# Altium integrated library National Semiconductor Interface.IntLib: 1433 symbols (part 4 of 51)
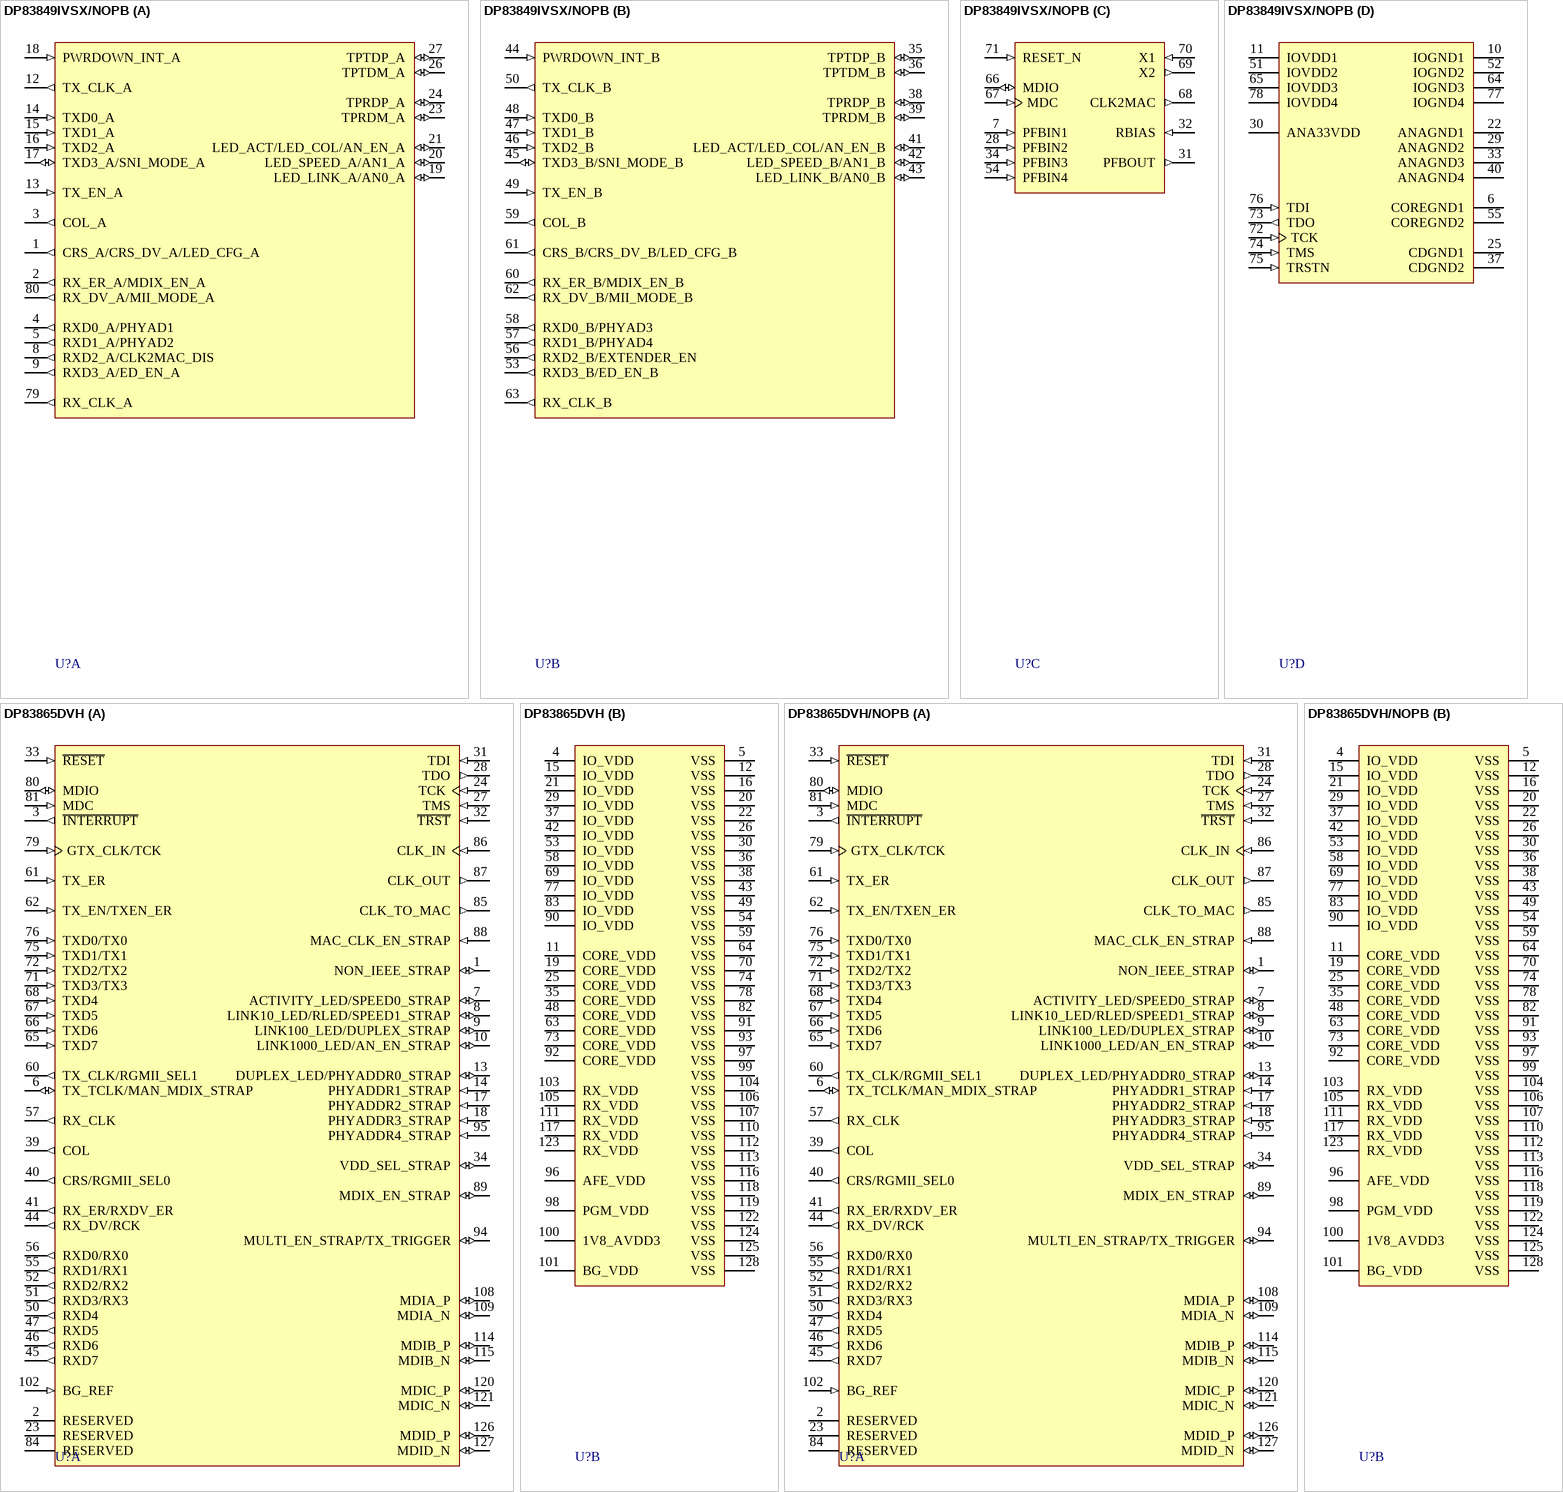
[diagram p127: symbols DP83849IVSX/NOPB to DP83865DVH/NOPB]

## DP83865DVH
designator U?
Gig PHYTER® V 10/100/1000 Ethernet Physical Layer, 128-pin PQFP; PartNumber: DP83865DVH; Manufacturer: National Semiconductor; PackageTopMarking: NSUZXYYTTE#*DP83865DVH; PowerWise: N; CompType: Interface IC; High-Reliability: Y; DatasheetVersion: Oct-2004; PackageVersion: revC, Jun-1998; PackageReference: VLA128A; PackageDescription: PQFP, (S), 14 x 20 x 2.7mm, 128 Lead; RoHS: N; PinCount: 128; ComponentLink1Description: Manufacturer URL; ComponentLink1URL: http://www.national.com/; ComponentLink2Description: DP83865 Datasheet; ComponentLink2URL: http://www.national.com/ds/DP/DP83865.pdf; ComponentLink3Description: DP83865 Web Page; ComponentLink3URL: http://www.national.com/pf/DP/DP83865.html; ComponentLink4Description: VLA128A Package Page; ComponentLink4URL: http://www.national.com/packaging/folders/vla128a.html
footprint VLA128A_N (Shrink QFP, 128-Leads, Body 20x14 mm, Pitch 0.5mm, IPC Medium Density)
footprint VLA128A_L (Shrink QFP, 128-Leads, Body 20x14 mm, Pitch 0.5mm, IPC High Density)
footprint VLA128A_M (Shrink QFP, 128-Leads, Body 20x14 mm, Pitch 0.5mm, IPC Low Density)
part A pins: 1 NON_IEEE_STRAP (io), 2 RESERVED, 3 ~{INTERRUPT} (out), 6 TX_TCLK/MAN_MDIX_STRAP (io), 7 ACTIVITY_LED/SPEED0_STRAP (io), 8 LINK10_LED/RLED/SPEED1_STRAP (io), 9 LINK100_LED/DUPLEX_STRAP (io), 10 LINK1000_LED/AN_EN_STRAP (io), 13 DUPLEX_LED/PHYADDR0_STRAP (io), 14 PHYADDR1_STRAP (in), 17 PHYADDR2_STRAP (in), 18 PHYADDR3_STRAP (in), 23 RESERVED, 24 TCK (in), 27 TMS (in), 28 TDO (out), 31 TDI (in), 32 ~{TRST} (in), 33 ~{RESET} (in), 34 VDD_SEL_STRAP (io), 39 COL (out), 40 CRS/RGMII_SEL0 (out), 41 RX_ER/RXDV_ER (out), 44 RX_DV/RCK (out), 45 RXD7 (out), 46 RXD6 (out), 47 RXD5 (out), 50 RXD4 (out), 51 RXD3/RX3 (out), 52 RXD2/RX2 (out), 55 RXD1/RX1 (out), 56 RXD0/RX0 (out), 57 RX_CLK (out), 60 TX_CLK/RGMII_SEL1 (out), 61 TX_ER (in), 62 TX_EN/TXEN_ER (in), 65 TXD7 (in), 66 TXD6 (in), 67 TXD5 (in), 68 TXD4 (in), 71 TXD3/TX3 (in), 72 TXD2/TX2 (in), 75 TXD1/TX1 (in), 76 TXD0/TX0 (in), 79 GTX_CLK/TCK (in), 80 MDIO (io), 81 MDC (in), 84 RESERVED, 85 CLK_TO_MAC (out), 86 CLK_IN (in), 87 CLK_OUT (out), 88 MAC_CLK_EN_STRAP (in), 89 MDIX_EN_STRAP (io), 94 MULTI_EN_STRAP/TX_TRIGGER (io), 95 PHYADDR4_STRAP (in), 102 BG_REF (in), 108 MDIA_P (io), 109 MDIA_N (io), 114 MDIB_P (io), 115 MDIB_N (io), 120 MDIC_P (io), 121 MDIC_N (io), 126 MDID_P (io), 127 MDID_N (io)
part B pins: 4 IO_VDD (power), 5 VSS (power), 11 CORE_VDD (power), 12 VSS (power), 15 IO_VDD (power), 16 VSS (power), 19 CORE_VDD (power), 20 VSS (power), 21 IO_VDD (power), 22 VSS (power), 25 CORE_VDD (power), 26 VSS (power), 29 IO_VDD (power), 30 VSS (power), 35 CORE_VDD (power), 36 VSS (power), 37 IO_VDD (power), 38 VSS (power), 42 IO_VDD (power), 43 VSS (power), 48 CORE_VDD (power), 49 VSS (power), 53 IO_VDD (power), 54 VSS (power), 58 IO_VDD (power), 59 VSS (power), 63 CORE_VDD (power), 64 VSS (power), 69 IO_VDD (power), 70 VSS (power), 73 CORE_VDD (power), 74 VSS (power), 77 IO_VDD (power), 78 VSS (power), 82 VSS (power), 83 IO_VDD (power), 90 IO_VDD (power), 91 VSS (power), 92 CORE_VDD (power), 93 VSS (power), 96 AFE_VDD (power), 97 VSS (power), 98 PGM_VDD (power), 99 VSS (power), 100 1V8_AVDD3 (power), 101 BG_VDD (power), 103 RX_VDD (power), 104 VSS (power), 105 RX_VDD (power), 106 VSS (power), 107 VSS (power), 110 VSS (power), 111 RX_VDD (power), 112 VSS (power), 113 VSS (power), 116 VSS (power), 117 RX_VDD (power), 118 VSS (power), 119 VSS (power), 122 VSS (power), 123 RX_VDD (power), 124 VSS (power), 125 VSS (power), 128 VSS (power)

## DP83865DVH/NOPB
designator U?
Gig PHYTER® V 10/100/1000 Ethernet Physical Layer, 128-pin PQFP, Pb-Free; PartNumber: DP83865DVH/NOPB; Manufacturer: National Semiconductor; PackageTopMarking: NSUZXYYTTE#*DP83865DVH; PowerWise: N; CompType: Interface IC; High-Reliability: Y; DatasheetVersion: Oct-2004; PackageVersion: revC, Jun-1998; PackageReference: VLA128A; PackageDescription: PQFP, (S), 14 x 20 x 2.7mm, 128 Lead; RoHS: Y; PinCount: 128; ComponentLink1Description: Manufacturer URL; ComponentLink1URL: http://www.national.com/; ComponentLink2Description: DP83865 Datasheet; ComponentLink2URL: http://www.national.com/ds/DP/DP83865.pdf; ComponentLink3Description: DP83865 Web Page; ComponentLink3URL: http://www.national.com/pf/DP/DP83865.html; ComponentLink4Description: VLA128A Package Page; ComponentLink4URL: http://www.national.com/packaging/folders/vla128a.html
footprint VLA128A_N (Shrink QFP, 128-Leads, Body 20x14 mm, Pitch 0.5mm, IPC Medium Density)
footprint VLA128A_L (Shrink QFP, 128-Leads, Body 20x14 mm, Pitch 0.5mm, IPC High Density)
footprint VLA128A_M (Shrink QFP, 128-Leads, Body 20x14 mm, Pitch 0.5mm, IPC Low Density)
part A pins: 1 NON_IEEE_STRAP (io), 2 RESERVED, 3 ~{INTERRUPT} (out), 6 TX_TCLK/MAN_MDIX_STRAP (io), 7 ACTIVITY_LED/SPEED0_STRAP (io), 8 LINK10_LED/RLED/SPEED1_STRAP (io), 9 LINK100_LED/DUPLEX_STRAP (io), 10 LINK1000_LED/AN_EN_STRAP (io), 13 DUPLEX_LED/PHYADDR0_STRAP (io), 14 PHYADDR1_STRAP (in), 17 PHYADDR2_STRAP (in), 18 PHYADDR3_STRAP (in), 23 RESERVED, 24 TCK (in), 27 TMS (in), 28 TDO (out), 31 TDI (in), 32 ~{TRST} (in), 33 ~{RESET} (in), 34 VDD_SEL_STRAP (io), 39 COL (out), 40 CRS/RGMII_SEL0 (out), 41 RX_ER/RXDV_ER (out), 44 RX_DV/RCK (out), 45 RXD7 (out), 46 RXD6 (out), 47 RXD5 (out), 50 RXD4 (out), 51 RXD3/RX3 (out), 52 RXD2/RX2 (out), 55 RXD1/RX1 (out), 56 RXD0/RX0 (out), 57 RX_CLK (out), 60 TX_CLK/RGMII_SEL1 (out), 61 TX_ER (in), 62 TX_EN/TXEN_ER (in), 65 TXD7 (in), 66 TXD6 (in), 67 TXD5 (in), 68 TXD4 (in), 71 TXD3/TX3 (in), 72 TXD2/TX2 (in), 75 TXD1/TX1 (in), 76 TXD0/TX0 (in), 79 GTX_CLK/TCK (in), 80 MDIO (io), 81 MDC (in), 84 RESERVED, 85 CLK_TO_MAC (out), 86 CLK_IN (in), 87 CLK_OUT (out), 88 MAC_CLK_EN_STRAP (in), 89 MDIX_EN_STRAP (io), 94 MULTI_EN_STRAP/TX_TRIGGER (io), 95 PHYADDR4_STRAP (in), 102 BG_REF (in), 108 MDIA_P (io), 109 MDIA_N (io), 114 MDIB_P (io), 115 MDIB_N (io), 120 MDIC_P (io), 121 MDIC_N (io), 126 MDID_P (io), 127 MDID_N (io)
part B pins: 4 IO_VDD (power), 5 VSS (power), 11 CORE_VDD (power), 12 VSS (power), 15 IO_VDD (power), 16 VSS (power), 19 CORE_VDD (power), 20 VSS (power), 21 IO_VDD (power), 22 VSS (power), 25 CORE_VDD (power), 26 VSS (power), 29 IO_VDD (power), 30 VSS (power), 35 CORE_VDD (power), 36 VSS (power), 37 IO_VDD (power), 38 VSS (power), 42 IO_VDD (power), 43 VSS (power), 48 CORE_VDD (power), 49 VSS (power), 53 IO_VDD (power), 54 VSS (power), 58 IO_VDD (power), 59 VSS (power), 63 CORE_VDD (power), 64 VSS (power), 69 IO_VDD (power), 70 VSS (power), 73 CORE_VDD (power), 74 VSS (power), 77 IO_VDD (power), 78 VSS (power), 82 VSS (power), 83 IO_VDD (power), 90 IO_VDD (power), 91 VSS (power), 92 CORE_VDD (power), 93 VSS (power), 96 AFE_VDD (power), 97 VSS (power), 98 PGM_VDD (power), 99 VSS (power), 100 1V8_AVDD3 (power), 101 BG_VDD (power), 103 RX_VDD (power), 104 VSS (power), 105 RX_VDD (power), 106 VSS (power), 107 VSS (power), 110 VSS (power), 111 RX_VDD (power), 112 VSS (power), 113 VSS (power), 116 VSS (power), 117 RX_VDD (power), 118 VSS (power), 119 VSS (power), 122 VSS (power), 123 RX_VDD (power), 124 VSS (power), 125 VSS (power), 128 VSS (power)

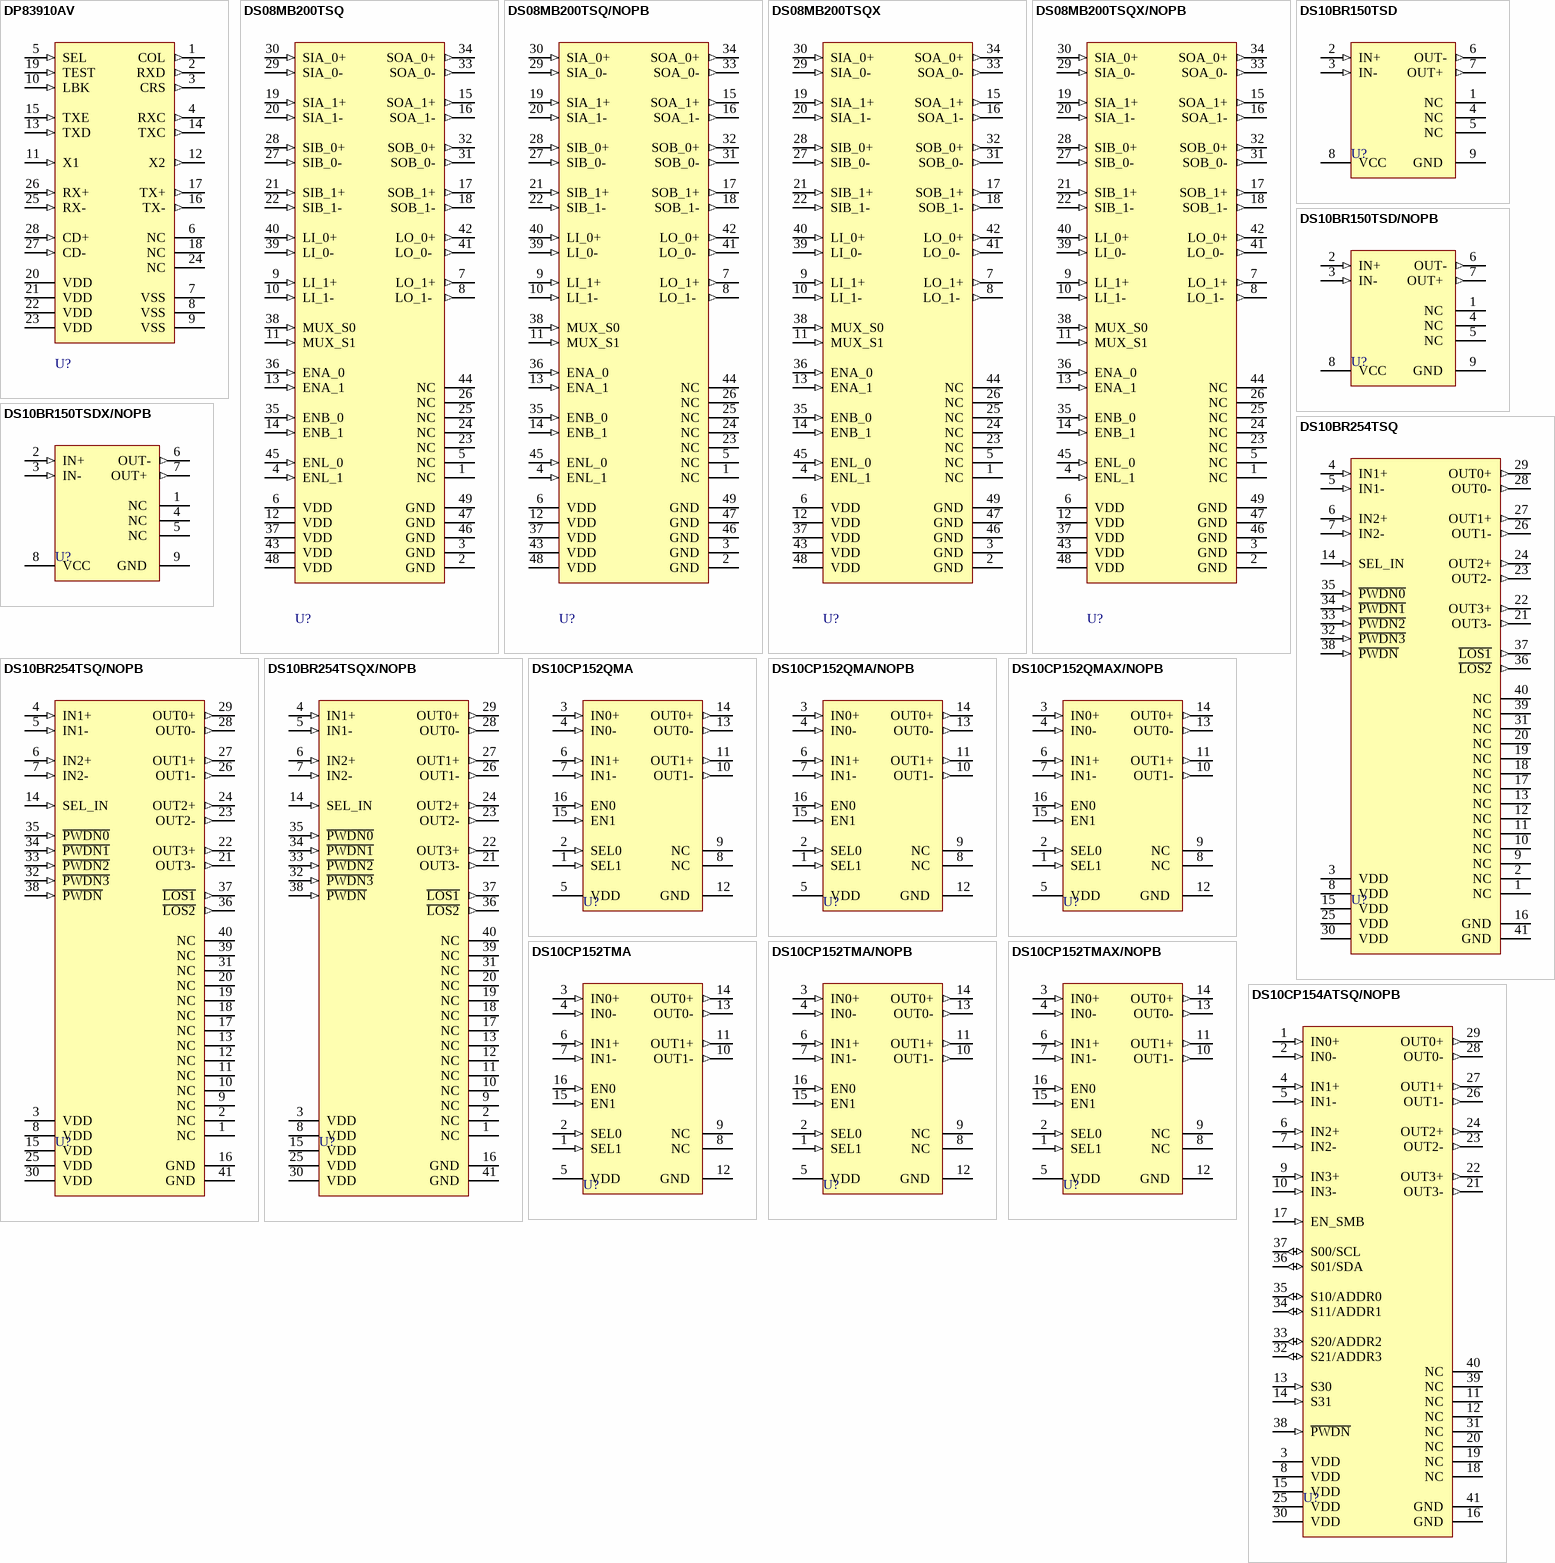
[diagram p14: symbols DP83910AV to DS10CP154ATSQ/NOPB]

## DP83910AV
designator U?
CMOS SNI Serial Network Interface, 28-pin PLCC; PartNumber: DP83910AV; Manufacturer: National Semiconductor; PackageTopMarking: NSUZXYYTTE#*DP83910AV; PowerWise: N; CompType: Interface IC; High-Reliability: Y; DatasheetVersion: May-1995; PackageVersion: revK, Dec-1993; PackageReference: V28A; PackageDescription: Plastic Chip Carrier, Sq., .050in Pitch, 28 Lead; RoHS: N; PinCount: 28; Code_IPC: PLCC-28; ComponentLink1Description: Manufacturer URL; ComponentLink1URL: http://www.national.com/; ComponentLink2Description: DP83910A Datasheet; ComponentLink2URL: http://www.national.com/ds/DP/DP83910A.pdf; ComponentLink3Description: DP83910A Web Page; ComponentLink3URL: http://www.national.com/pf/DP/DP83910A.html; ComponentLink4Description: V28A Package Page; ComponentLink4URL: http://www.national.com/packaging/folders/v28a.html
footprint V28A_N (Leaded Chip Carrier, 28-Leads, Body 11.5x11.5mm, Pitch 1.27mm, IPC Medium Density)
footprint V28A_L (Leaded Chip Carrier, 28-Leads, Body 11.5x11.5mm, Pitch 1.27mm, IPC High Density)
footprint V28A_M (Leaded Chip Carrier, 28-Leads, Body 11.5x11.5mm, Pitch 1.27mm, IPC Low Density)
pins: 1 COL (out), 2 RXD (out), 3 CRS (out), 4 RXC (out), 5 SEL (in), 6 NC, 7 VSS (power), 8 VSS (power), 9 VSS (power), 10 LBK (in), 11 X1 (in), 12 X2 (out), 13 TXD (in), 14 TXC (out), 15 TXE (in), 16 TX- (out), 17 TX+ (out), 18 NC, 19 TEST (in), 20 VDD (power), 21 VDD (power), 22 VDD (power), 23 VDD (power), 24 NC, 25 RX- (in), 26 RX+ (in), 27 CD- (in), 28 CD+ (in)

## DS08MB200TSQ
designator U?
Dual 800 Mbps 2:1/1:2 LVDS Mux/Buffer, 48-pin LLP; PartNumber: DS08MB200TSQ; Manufacturer: National Semiconductor; PackageTopMarking: NS*UZXYTTE#*08MB200; PowerWise: N; CompType: Interface IC; High-Reliability: Y; DatasheetVersion: Nov-2007; PackageVersion: revB, May-2009; PackageReference: SQA48A; PackageDescription: LLP, Plastic, Quad, 7 x 7 x 0.8mm Body, 48 Lead, 0.5mm Pitch, No Pullback; RoHS: N; PinCount: 48; Code_JEDEC: MO-220-WKKD-2; ComponentLink1Description: Manufacturer URL; ComponentLink1URL: http://www.national.com/; ComponentLink2Description: DS08MB200 Datasheet; ComponentLink2URL: http://www.national.com/ds/DS/DS08MB200.pdf; ComponentLink3Description: DS08MB200 Web Page; ComponentLink3URL: http://www.national.com/pf/DS/DS08MB200.html; ComponentLink4Description: SQA48A Package Page; ComponentLink4URL: http://www.national.com/packaging/folders/sqa48a.html
footprint SQA48A (QFN, 48-Leads, Body 7x7mm, Pitch 0.5mm, Thermal Pad 5.2x5.2mm, NSC Recommended)
pins: 1 NC, 2 GND (power), 3 GND (power), 4 ENL_1  (in), 5 NC, 6 VDD (power), 7 LO_1+ (out), 8 LO_1-  (out), 9 LI_1+ (in), 10 LI_1-  (in), 11 MUX_S1  (in), 12 VDD (power), 13 ENA_1  (in), 14 ENB_1  (in), 15 SOA_1+ (out), 16 SOA_1- (out), 17 SOB_1+ (out), 18 SOB_1- (out), 19 SIA_1+ (in), 20 SIA_1- (in), 21 SIB_1+ (in), 22 SIB_1- (in), 23 NC, 24 NC, 25 NC, 26 NC, 27 SIB_0- (in), 28 SIB_0+ (in), 29 SIA_0- (in), 30 SIA_0+ (in), 31 SOB_0- (out), 32 SOB_0+ (out), 33 SOA_0- (out), 34 SOA_0+ (out), 35 ENB_0  (in), 36 ENA_0  (in), 37 VDD (power), 38 MUX_S0  (in), 39 LI_0-  (in), 40 LI_0+ (in), 41 LO_0-  (out), 42 LO_0+ (out), 43 VDD (power), 44 NC, 45 ENL_0  (in), 46 GND (power), 47 GND (power), 48 VDD (power), 49 GND (power)

## DS08MB200TSQ/NOPB
designator U?
Dual 800 Mbps 2:1/1:2 LVDS Mux/Buffer, 48-pin LLP, Pb-Free; PartNumber: DS08MB200TSQ/NOPB; Manufacturer: National Semiconductor; PackageTopMarking: NS*UZXYTTE#*08MB200; PowerWise: N; CompType: Interface IC; High-Reliability: Y; DatasheetVersion: Nov-2007; PackageVersion: revB, May-2009; PackageReference: SQA48A; PackageDescription: LLP, Plastic, Quad, 7 x 7 x 0.8mm Body, 48 Lead, 0.5mm Pitch, No Pullback; RoHS: Y; PinCount: 48; Code_JEDEC: MO-220-WKKD-2; ComponentLink1Description: Manufacturer URL; ComponentLink1URL: http://www.national.com/; ComponentLink2Description: DS08MB200 Datasheet; ComponentLink2URL: http://www.national.com/ds/DS/DS08MB200.pdf; ComponentLink3Description: DS08MB200 Web Page; ComponentLink3URL: http://www.national.com/pf/DS/DS08MB200.html; ComponentLink4Description: SQA48A Package Page; ComponentLink4URL: http://www.national.com/packaging/folders/sqa48a.html
footprint SQA48A (QFN, 48-Leads, Body 7x7mm, Pitch 0.5mm, Thermal Pad 5.2x5.2mm, NSC Recommended)
pins: 1 NC, 2 GND (power), 3 GND (power), 4 ENL_1  (in), 5 NC, 6 VDD (power), 7 LO_1+ (out), 8 LO_1-  (out), 9 LI_1+ (in), 10 LI_1-  (in), 11 MUX_S1  (in), 12 VDD (power), 13 ENA_1  (in), 14 ENB_1  (in), 15 SOA_1+ (out), 16 SOA_1- (out), 17 SOB_1+ (out), 18 SOB_1- (out), 19 SIA_1+ (in), 20 SIA_1- (in), 21 SIB_1+ (in), 22 SIB_1- (in), 23 NC, 24 NC, 25 NC, 26 NC, 27 SIB_0- (in), 28 SIB_0+ (in), 29 SIA_0- (in), 30 SIA_0+ (in), 31 SOB_0- (out), 32 SOB_0+ (out), 33 SOA_0- (out), 34 SOA_0+ (out), 35 ENB_0  (in), 36 ENA_0  (in), 37 VDD (power), 38 MUX_S0  (in), 39 LI_0-  (in), 40 LI_0+ (in), 41 LO_0-  (out), 42 LO_0+ (out), 43 VDD (power), 44 NC, 45 ENL_0  (in), 46 GND (power), 47 GND (power), 48 VDD (power), 49 GND (power)

## DS08MB200TSQX
designator U?
Dual 800 Mbps 2:1/1:2 LVDS Mux/Buffer, 48-pin LLP; PartNumber: DS08MB200TSQX; Manufacturer: National Semiconductor; PackageTopMarking: NS*UZXYTTE#*08MB200; PowerWise: N; CompType: Interface IC; High-Reliability: Y; DatasheetVersion: Nov-2007; PackageVersion: revB, May-2009; PackageReference: SQA48A; PackageDescription: LLP, Plastic, Quad, 7 x 7 x 0.8mm Body, 48 Lead, 0.5mm Pitch, No Pullback; RoHS: N; PinCount: 48; Code_JEDEC: MO-220-WKKD-2; ComponentLink1Description: Manufacturer URL; ComponentLink1URL: http://www.national.com/; ComponentLink2Description: DS08MB200 Datasheet; ComponentLink2URL: http://www.national.com/ds/DS/DS08MB200.pdf; ComponentLink3Description: DS08MB200 Web Page; ComponentLink3URL: http://www.national.com/pf/DS/DS08MB200.html; ComponentLink4Description: SQA48A Package Page; ComponentLink4URL: http://www.national.com/packaging/folders/sqa48a.html
footprint SQA48A (QFN, 48-Leads, Body 7x7mm, Pitch 0.5mm, Thermal Pad 5.2x5.2mm, NSC Recommended)
pins: 1 NC, 2 GND (power), 3 GND (power), 4 ENL_1  (in), 5 NC, 6 VDD (power), 7 LO_1+ (out), 8 LO_1-  (out), 9 LI_1+ (in), 10 LI_1-  (in), 11 MUX_S1  (in), 12 VDD (power), 13 ENA_1  (in), 14 ENB_1  (in), 15 SOA_1+ (out), 16 SOA_1- (out), 17 SOB_1+ (out), 18 SOB_1- (out), 19 SIA_1+ (in), 20 SIA_1- (in), 21 SIB_1+ (in), 22 SIB_1- (in), 23 NC, 24 NC, 25 NC, 26 NC, 27 SIB_0- (in), 28 SIB_0+ (in), 29 SIA_0- (in), 30 SIA_0+ (in), 31 SOB_0- (out), 32 SOB_0+ (out), 33 SOA_0- (out), 34 SOA_0+ (out), 35 ENB_0  (in), 36 ENA_0  (in), 37 VDD (power), 38 MUX_S0  (in), 39 LI_0-  (in), 40 LI_0+ (in), 41 LO_0-  (out), 42 LO_0+ (out), 43 VDD (power), 44 NC, 45 ENL_0  (in), 46 GND (power), 47 GND (power), 48 VDD (power), 49 GND (power)

## DS08MB200TSQX/NOPB
designator U?
Dual 800 Mbps 2:1/1:2 LVDS Mux/Buffer, 48-pin LLP, Pb-Free; PartNumber: DS08MB200TSQX/NOPB; Manufacturer: National Semiconductor; PackageTopMarking: NS*UZXYTTE#*08MB200; PowerWise: N; CompType: Interface IC; High-Reliability: Y; DatasheetVersion: Nov-2007; PackageVersion: revB, May-2009; PackageReference: SQA48A; PackageDescription: LLP, Plastic, Quad, 7 x 7 x 0.8mm Body, 48 Lead, 0.5mm Pitch, No Pullback; RoHS: Y; PinCount: 48; Code_JEDEC: MO-220-WKKD-2; ComponentLink1Description: Manufacturer URL; ComponentLink1URL: http://www.national.com/; ComponentLink2Description: DS08MB200 Datasheet; ComponentLink2URL: http://www.national.com/ds/DS/DS08MB200.pdf; ComponentLink3Description: DS08MB200 Web Page; ComponentLink3URL: http://www.national.com/pf/DS/DS08MB200.html; ComponentLink4Description: SQA48A Package Page; ComponentLink4URL: http://www.national.com/packaging/folders/sqa48a.html
footprint SQA48A (QFN, 48-Leads, Body 7x7mm, Pitch 0.5mm, Thermal Pad 5.2x5.2mm, NSC Recommended)
pins: 1 NC, 2 GND (power), 3 GND (power), 4 ENL_1  (in), 5 NC, 6 VDD (power), 7 LO_1+ (out), 8 LO_1-  (out), 9 LI_1+ (in), 10 LI_1-  (in), 11 MUX_S1  (in), 12 VDD (power), 13 ENA_1  (in), 14 ENB_1  (in), 15 SOA_1+ (out), 16 SOA_1- (out), 17 SOB_1+ (out), 18 SOB_1- (out), 19 SIA_1+ (in), 20 SIA_1- (in), 21 SIB_1+ (in), 22 SIB_1- (in), 23 NC, 24 NC, 25 NC, 26 NC, 27 SIB_0- (in), 28 SIB_0+ (in), 29 SIA_0- (in), 30 SIA_0+ (in), 31 SOB_0- (out), 32 SOB_0+ (out), 33 SOA_0- (out), 34 SOA_0+ (out), 35 ENB_0  (in), 36 ENA_0  (in), 37 VDD (power), 38 MUX_S0  (in), 39 LI_0-  (in), 40 LI_0+ (in), 41 LO_0-  (out), 42 LO_0+ (out), 43 VDD (power), 44 NC, 45 ENL_0  (in), 46 GND (power), 47 GND (power), 48 VDD (power), 49 GND (power)

## DS10BR150TSD
designator U?
1.0 Gbps LVDS Buffer/Repeater, 8-pin LLP; PartNumber: DS10BR150TSD; Manufacturer: National Semiconductor; PackageTopMarking: ZXYTT*1R150; PowerWise: N; CompType: Interface IC; High-Reliability: Y; DatasheetVersion: Nov-2007; PackageVersion: revA, Aug-2003; PackageReference: SDA08A; PackageDescription: LLP, Plastic, Dual, 3 x 3 x 0.8mm Body, 8 Lead, 0.5mm Pitch, No Pullback; RoHS: Y; PinCount: 8; ComponentLink1Description: Manufacturer URL; ComponentLink1URL: http://www.national.com/; ComponentLink2Description: DS10BR150 Datasheet; ComponentLink2URL: http://www.national.com/ds/DS/DS10BR150.pdf; ComponentLink3Description: DS10BR150 Web Page; ComponentLink3URL: http://www.national.com/pf/DS/DS10BR150.html; ComponentLink4Description: SDA08A Package Page; ComponentLink4URL: http://www.national.com/packaging/folders/sda08a.html
footprint SDA08A (SON, 8-Leads, Body 3x3mm, Pitch 0.5mm, NSC Recommended)
pins: 1 NC , 2 IN+  (in), 3 IN- (in), 4 NC , 5 NC , 6 OUT- (out), 7 OUT+  (out), 8 VCC  (power), 9 GND  (power)

## DS10BR150TSD/NOPB
designator U?
1.0 Gbps LVDS Buffer/Repeater, 8-pin LLP, Pb-Free; PartNumber: DS10BR150TSD/NOPB; Manufacturer: National Semiconductor; PackageTopMarking: ZXYTT*1R150; PowerWise: N; CompType: Interface IC; High-Reliability: Y; DatasheetVersion: Nov-2007; PackageVersion: revA, Aug-2003; PackageReference: SDA08A; PackageDescription: LLP, Plastic, Dual, 3 x 3 x 0.8mm Body, 8 Lead, 0.5mm Pitch, No Pullback; RoHS: Y; PinCount: 8; ComponentLink1Description: Manufacturer URL; ComponentLink1URL: http://www.national.com/; ComponentLink2Description: DS10BR150 Datasheet; ComponentLink2URL: http://www.national.com/ds/DS/DS10BR150.pdf; ComponentLink3Description: DS10BR150 Web Page; ComponentLink3URL: http://www.national.com/pf/DS/DS10BR150.html; ComponentLink4Description: SDA08A Package Page; ComponentLink4URL: http://www.national.com/packaging/folders/sda08a.html
footprint SDA08A (SON, 8-Leads, Body 3x3mm, Pitch 0.5mm, NSC Recommended)
pins: 1 NC , 2 IN+  (in), 3 IN- (in), 4 NC , 5 NC , 6 OUT- (out), 7 OUT+  (out), 8 VCC  (power), 9 GND  (power)

## DS10BR150TSDX/NOPB
designator U?
1.0 Gbps LVDS Buffer/Repeater, 8-pin LLP, Pb-Free; PartNumber: DS10BR150TSDX/NOPB; Manufacturer: National Semiconductor; PackageTopMarking: ZXYTT*1R150; PowerWise: N; CompType: Interface IC; High-Reliability: Y; DatasheetVersion: Nov-2007; PackageVersion: revA, Aug-2003; PackageReference: SDA08A; PackageDescription: LLP, Plastic, Dual, 3 x 3 x 0.8mm Body, 8 Lead, 0.5mm Pitch, No Pullback; RoHS: Y; PinCount: 8; ComponentLink1Description: Manufacturer URL; ComponentLink1URL: http://www.national.com/; ComponentLink2Description: DS10BR150 Datasheet; ComponentLink2URL: http://www.national.com/ds/DS/DS10BR150.pdf; ComponentLink3Description: DS10BR150 Web Page; ComponentLink3URL: http://www.national.com/pf/DS/DS10BR150.html; ComponentLink4Description: SDA08A Package Page; ComponentLink4URL: http://www.national.com/packaging/folders/sda08a.html
footprint SDA08A (SON, 8-Leads, Body 3x3mm, Pitch 0.5mm, NSC Recommended)
pins: 1 NC , 2 IN+  (in), 3 IN- (in), 4 NC , 5 NC , 6 OUT- (out), 7 OUT+  (out), 8 VCC  (power), 9 GND  (power)

## DS10BR254TSQ
designator U?
1.5 Gbps 1:4 LVDS Repeater, 40-pin LLP; PartNumber: DS10BR254TSQ; Manufacturer: National Semiconductor; PackageTopMarking: NS*UZXYTT*1BR254SQ; PowerWise: N; CompType: Interface IC; High-Reliability: Y; DatasheetVersion: Apr-2008; PackageVersion: revB, Mar-2004; PackageReference: SQA40A; PackageDescription: LLP, Plastic, Quad, 6 x 6 x 0.8mm Body, 40 Lead, 0.5mm Pitch, No Pullback; RoHS: Y; PinCount: 40; ComponentLink1Description: Manufacturer URL; ComponentLink1URL: http://www.national.com/; ComponentLink2Description: DS10BR254 Datasheet; ComponentLink2URL: http://www.national.com/ds/DS/DS10BR254.pdf; ComponentLink3Description: DS10BR254 Web Page; ComponentLink3URL: http://www.national.com/pf/DS/DS10BR254.html; ComponentLink4Description: SQA40A Package Page; ComponentLink4URL: http://www.national.com/packaging/folders/sqa40a.html
footprint SQA40A (QFN, 40-Leads, Body 6x6mm, Pitch 0.5mm, Thermal Pad 4.7x4.7mm, NSC Recommended)
pins: 1 NC, 2 NC, 3 VDD (power), 4 IN1+ (in), 5 IN1- (in), 6 IN2+ (in), 7 IN2- (in), 8 VDD (power), 9 NC, 10 NC, 11 NC, 12 NC, 13 NC, 14 SEL_IN (in), 15 VDD (power), 16 GND (power), 17 NC, 18 NC, 19 NC, 20 NC, 21 OUT3- (out), 22 OUT3+ (out), 23 OUT2- (out), 24 OUT2+ (out), 25 VDD (power), 26 OUT1- (out), 27 OUT1+ (out), 28 OUT0- (out), 29 OUT0+ (out), 30 VDD (power), 31 NC, 32 ~{PWDN3} (in), 33 ~{PWDN2} (in), 34 ~{PWDN1} (in), 35 ~{PWDN0} (in), 36 ~{LOS2} (out), 37 ~{LOS1} (out), 38 ~{PWDN} (in), 39 NC, 40 NC, 41 GND (power)

## DS10BR254TSQ/NOPB
designator U?
1.5 Gbps 1:4 LVDS Repeater, 40-pin LLP, Pb-Free; PartNumber: DS10BR254TSQ/NOPB; Manufacturer: National Semiconductor; PackageTopMarking: NS*UZXYTTE#*1BR254SQ; PowerWise: N; CompType: Interface IC; High-Reliability: Y; DatasheetVersion: Apr-2008; PackageVersion: revB, Mar-2004; PackageReference: SQA40A; PackageDescription: LLP, Plastic, Quad, 6 x 6 x 0.8mm Body, 40 Lead, 0.5mm Pitch, No Pullback; RoHS: Y; PinCount: 40; ComponentLink1Description: Manufacturer URL; ComponentLink1URL: http://www.national.com/; ComponentLink2Description: DS10BR254 Datasheet; ComponentLink2URL: http://www.national.com/ds/DS/DS10BR254.pdf; ComponentLink3Description: DS10BR254 Web Page; ComponentLink3URL: http://www.national.com/pf/DS/DS10BR254.html; ComponentLink4Description: SQA40A Package Page; ComponentLink4URL: http://www.national.com/packaging/folders/sqa40a.html
footprint SQA40A (QFN, 40-Leads, Body 6x6mm, Pitch 0.5mm, Thermal Pad 4.7x4.7mm, NSC Recommended)
pins: 1 NC, 2 NC, 3 VDD (power), 4 IN1+ (in), 5 IN1- (in), 6 IN2+ (in), 7 IN2- (in), 8 VDD (power), 9 NC, 10 NC, 11 NC, 12 NC, 13 NC, 14 SEL_IN (in), 15 VDD (power), 16 GND (power), 17 NC, 18 NC, 19 NC, 20 NC, 21 OUT3- (out), 22 OUT3+ (out), 23 OUT2- (out), 24 OUT2+ (out), 25 VDD (power), 26 OUT1- (out), 27 OUT1+ (out), 28 OUT0- (out), 29 OUT0+ (out), 30 VDD (power), 31 NC, 32 ~{PWDN3} (in), 33 ~{PWDN2} (in), 34 ~{PWDN1} (in), 35 ~{PWDN0} (in), 36 ~{LOS2} (out), 37 ~{LOS1} (out), 38 ~{PWDN} (in), 39 NC, 40 NC, 41 GND (power)

## DS10BR254TSQX/NOPB
designator U?
1.5 Gbps 1:4 LVDS Repeater, 40-pin LLP, Pb-Free; PartNumber: DS10BR254TSQX/NOPB; Manufacturer: National Semiconductor; PackageTopMarking: NS*UZXYTTE#*1BR254SQ; PowerWise: N; CompType: Interface IC; High-Reliability: Y; DatasheetVersion: Apr-2008; PackageVersion: revB, Mar-2004; PackageReference: SQA40A; PackageDescription: LLP, Plastic, Quad, 6 x 6 x 0.8mm Body, 40 Lead, 0.5mm Pitch, No Pullback; RoHS: Y; PinCount: 40; ComponentLink1Description: Manufacturer URL; ComponentLink1URL: http://www.national.com/; ComponentLink2Description: DS10BR254 Datasheet; ComponentLink2URL: http://www.national.com/ds/DS/DS10BR254.pdf; ComponentLink3Description: DS10BR254 Web Page; ComponentLink3URL: http://www.national.com/pf/DS/DS10BR254.html; ComponentLink4Description: SQA40A Package Page; ComponentLink4URL: http://www.national.com/packaging/folders/sqa40a.html
footprint SQA40A (QFN, 40-Leads, Body 6x6mm, Pitch 0.5mm, Thermal Pad 4.7x4.7mm, NSC Recommended)
pins: 1 NC, 2 NC, 3 VDD (power), 4 IN1+ (in), 5 IN1- (in), 6 IN2+ (in), 7 IN2- (in), 8 VDD (power), 9 NC, 10 NC, 11 NC, 12 NC, 13 NC, 14 SEL_IN (in), 15 VDD (power), 16 GND (power), 17 NC, 18 NC, 19 NC, 20 NC, 21 OUT3- (out), 22 OUT3+ (out), 23 OUT2- (out), 24 OUT2+ (out), 25 VDD (power), 26 OUT1- (out), 27 OUT1+ (out), 28 OUT0- (out), 29 OUT0+ (out), 30 VDD (power), 31 NC, 32 ~{PWDN3} (in), 33 ~{PWDN2} (in), 34 ~{PWDN1} (in), 35 ~{PWDN0} (in), 36 ~{LOS2} (out), 37 ~{LOS1} (out), 38 ~{PWDN} (in), 39 NC, 40 NC, 41 GND (power)

## DS10CP152QMA
designator U?
Automotive 1.5 Gbps 2X2 LVDS Crosspoint Switch, 16-pin Narrow SOIC; PartNumber: DS10CP152QMA; Manufacturer: National Semiconductor; PackageTopMarking: NSUZXYTT*DS10CP152*QMA; PowerWise: N; CompType: Interface IC; High-Reliability: Y; DatasheetVersion: Jun-2008; PackageVersion: revJ, Aug-1995; PackageReference: M16A; PackageDescription: Molded Package, SO, .150in Wide, 16 Lead; RoHS: Y; PinCount: 16; Code_JEDEC: MS-012-AC; Code_IPC: SOIC127P600-16; ComponentLink1Description: Manufacturer URL; ComponentLink1URL: http://www.national.com/; ComponentLink2Description: DS10CP152Q Datasheet; ComponentLink2URL: http://www.national.com/ds/DS/DS10CP152Q.pdf; ComponentLink3Description: DS10CP152Q Web Page; ComponentLink3URL: http://www.national.com/pf/DS/DS10CP152Q.html; ComponentLink4Description: M16A Package Page; ComponentLink4URL: http://www.national.com/packaging/folders/m16a.html
footprint M16A_N (SOIC, 16-Leads, Body 9.9x3.9mm, Pitch 1.27mm, IPC Medium Density)
footprint M16A_L (SOIC, 16-Leads, Body 9.9x3.9mm, Pitch 1.27mm, IPC High Density)
footprint M16A_M (SOIC, 16-Leads, Body 9.9x3.9mm, Pitch 1.27mm, IPC Low Density)
pins: 1 SEL1 (in), 2 SEL0 (in), 3 IN0+ (in), 4 IN0- (in), 5 VDD (power), 6 IN1+ (in), 7 IN1- (in), 8 NC , 9 NC , 10 OUT1- (out), 11 OUT1+ (out), 12 GND  (power), 13 OUT0- (out), 14 OUT0+ (out), 15 EN1 (in), 16 EN0 (in)

## DS10CP152QMA/NOPB
designator U?
Automotive 1.5 Gbps 2X2 LVDS Crosspoint Switch, 16-pin Narrow SOIC, Pb-Free; PartNumber: DS10CP152QMA/NOPB; Manufacturer: National Semiconductor; PackageTopMarking: NSUZXYTTE#*DS10CP152*QMA; PowerWise: N; CompType: Interface IC; High-Reliability: Y; DatasheetVersion: Jun-2008; PackageVersion: revJ, Aug-1995; PackageReference: M16A; PackageDescription: Molded Package, SO, .150in Wide, 16 Lead; RoHS: Y; PinCount: 16; Code_JEDEC: MS-012-AC; Code_IPC: SOIC127P600-16; ComponentLink1Description: Manufacturer URL; ComponentLink1URL: http://www.national.com/; ComponentLink2Description: DS10CP152Q Datasheet; ComponentLink2URL: http://www.national.com/ds/DS/DS10CP152Q.pdf; ComponentLink3Description: DS10CP152Q Web Page; ComponentLink3URL: http://www.national.com/pf/DS/DS10CP152Q.html; ComponentLink4Description: M16A Package Page; ComponentLink4URL: http://www.national.com/packaging/folders/m16a.html
footprint M16A_N (SOIC, 16-Leads, Body 9.9x3.9mm, Pitch 1.27mm, IPC Medium Density)
footprint M16A_L (SOIC, 16-Leads, Body 9.9x3.9mm, Pitch 1.27mm, IPC High Density)
footprint M16A_M (SOIC, 16-Leads, Body 9.9x3.9mm, Pitch 1.27mm, IPC Low Density)
pins: 1 SEL1 (in), 2 SEL0 (in), 3 IN0+ (in), 4 IN0- (in), 5 VDD (power), 6 IN1+ (in), 7 IN1- (in), 8 NC , 9 NC , 10 OUT1- (out), 11 OUT1+ (out), 12 GND  (power), 13 OUT0- (out), 14 OUT0+ (out), 15 EN1 (in), 16 EN0 (in)

## DS10CP152QMAX/NOPB
designator U?
Automotive 1.5 Gbps 2X2 LVDS Crosspoint Switch, 16-pin Narrow SOIC, Pb-Free; PartNumber: DS10CP152QMAX/NOPB; Manufacturer: National Semiconductor; PackageTopMarking: NSUZXYTTE#*DS10CP152*QMA; PowerWise: N; CompType: Interface IC; High-Reliability: Y; DatasheetVersion: Jun-2008; PackageVersion: revJ, Aug-1995; PackageReference: M16A; PackageDescription: Molded Package, SO, .150in Wide, 16 Lead; RoHS: Y; PinCount: 16; Code_JEDEC: MS-012-AC; Code_IPC: SOIC127P600-16; ComponentLink1Description: Manufacturer URL; ComponentLink1URL: http://www.national.com/; ComponentLink2Description: DS10CP152Q Datasheet; ComponentLink2URL: http://www.national.com/ds/DS/DS10CP152Q.pdf; ComponentLink3Description: DS10CP152Q Web Page; ComponentLink3URL: http://www.national.com/pf/DS/DS10CP152Q.html; ComponentLink4Description: M16A Package Page; ComponentLink4URL: http://www.national.com/packaging/folders/m16a.html
footprint M16A_N (SOIC, 16-Leads, Body 9.9x3.9mm, Pitch 1.27mm, IPC Medium Density)
footprint M16A_L (SOIC, 16-Leads, Body 9.9x3.9mm, Pitch 1.27mm, IPC High Density)
footprint M16A_M (SOIC, 16-Leads, Body 9.9x3.9mm, Pitch 1.27mm, IPC Low Density)
pins: 1 SEL1 (in), 2 SEL0 (in), 3 IN0+ (in), 4 IN0- (in), 5 VDD (power), 6 IN1+ (in), 7 IN1- (in), 8 NC , 9 NC , 10 OUT1- (out), 11 OUT1+ (out), 12 GND  (power), 13 OUT0- (out), 14 OUT0+ (out), 15 EN1 (in), 16 EN0 (in)

## DS10CP152TMA
designator U?
1.5 Gbps 2X2 LVDS Crosspoint Switch, 16-pin Narrow SOIC; PartNumber: DS10CP152TMA; Manufacturer: National Semiconductor; PackageTopMarking: NSUZXYTT*DS10CP152*TMA; PowerWise: N; CompType: Interface IC; High-Reliability: Y; DatasheetVersion: Mar-2009; PackageVersion: revJ, Aug-1995; PackageReference: M16A; PackageDescription: Molded Package, SO, .150in Wide, 16 Lead; RoHS: Y; PinCount: 16; Code_JEDEC: MS-012-AC; Code_IPC: SOIC127P600-16; ComponentLink1Description: Manufacturer URL; ComponentLink1URL: http://www.national.com/; ComponentLink2Description: DS10CP152 Datasheet; ComponentLink2URL: http://www.national.com/ds/DS/DS10CP152.pdf; ComponentLink3Description: DS10CP152 Web Page; ComponentLink3URL: http://www.national.com/pf/DS/DS10CP152.html; ComponentLink4Description: M16A Package Page; ComponentLink4URL: http://www.national.com/packaging/folders/m16a.html
footprint M16A_N (SOIC, 16-Leads, Body 9.9x3.9mm, Pitch 1.27mm, IPC Medium Density)
footprint M16A_L (SOIC, 16-Leads, Body 9.9x3.9mm, Pitch 1.27mm, IPC High Density)
footprint M16A_M (SOIC, 16-Leads, Body 9.9x3.9mm, Pitch 1.27mm, IPC Low Density)
pins: 1 SEL1 (in), 2 SEL0 (in), 3 IN0+ (in), 4 IN0- (in), 5 VDD (power), 6 IN1+ (in), 7 IN1- (in), 8 NC , 9 NC , 10 OUT1- (out), 11 OUT1+ (out), 12 GND  (power), 13 OUT0- (out), 14 OUT0+ (out), 15 EN1 (in), 16 EN0 (in)

## DS10CP152TMA/NOPB
designator U?
1.5 Gbps 2X2 LVDS Crosspoint Switch, 16-pin Narrow SOIC, Pb-Free; PartNumber: DS10CP152TMA/NOPB; Manufacturer: National Semiconductor; PackageTopMarking: NSUZXYTTE#*DS10CP152*TMA; PowerWise: N; CompType: Interface IC; High-Reliability: Y; DatasheetVersion: Mar-2009; PackageVersion: revJ, Aug-1995; PackageReference: M16A; PackageDescription: Molded Package, SO, .150in Wide, 16 Lead; RoHS: Y; PinCount: 16; Code_JEDEC: MS-012-AC; Code_IPC: SOIC127P600-16; ComponentLink1Description: Manufacturer URL; ComponentLink1URL: http://www.national.com/; ComponentLink2Description: DS10CP152 Datasheet; ComponentLink2URL: http://www.national.com/ds/DS/DS10CP152.pdf; ComponentLink3Description: DS10CP152 Web Page; ComponentLink3URL: http://www.national.com/pf/DS/DS10CP152.html; ComponentLink4Description: M16A Package Page; ComponentLink4URL: http://www.national.com/packaging/folders/m16a.html
footprint M16A_N (SOIC, 16-Leads, Body 9.9x3.9mm, Pitch 1.27mm, IPC Medium Density)
footprint M16A_L (SOIC, 16-Leads, Body 9.9x3.9mm, Pitch 1.27mm, IPC High Density)
footprint M16A_M (SOIC, 16-Leads, Body 9.9x3.9mm, Pitch 1.27mm, IPC Low Density)
pins: 1 SEL1 (in), 2 SEL0 (in), 3 IN0+ (in), 4 IN0- (in), 5 VDD (power), 6 IN1+ (in), 7 IN1- (in), 8 NC , 9 NC , 10 OUT1- (out), 11 OUT1+ (out), 12 GND  (power), 13 OUT0- (out), 14 OUT0+ (out), 15 EN1 (in), 16 EN0 (in)

## DS10CP152TMAX/NOPB
designator U?
1.5 Gbps 2X2 LVDS Crosspoint Switch, 16-pin Narrow SOIC, Pb-Free; PartNumber: DS10CP152TMAX/NOPB; Manufacturer: National Semiconductor; PackageTopMarking: NSUZXYTTE#*DS10CP152*TMA; PowerWise: N; CompType: Interface IC; High-Reliability: Y; DatasheetVersion: Mar-2009; PackageVersion: revJ, Aug-1995; PackageReference: M16A; PackageDescription: Molded Package, SO, .150in Wide, 16 Lead; RoHS: Y; PinCount: 16; Code_JEDEC: MS-012-AC; Code_IPC: SOIC127P600-16; ComponentLink1Description: Manufacturer URL; ComponentLink1URL: http://www.national.com/; ComponentLink2Description: DS10CP152 Datasheet; ComponentLink2URL: http://www.national.com/ds/DS/DS10CP152.pdf; ComponentLink3Description: DS10CP152 Web Page; ComponentLink3URL: http://www.national.com/pf/DS/DS10CP152.html; ComponentLink4Description: M16A Package Page; ComponentLink4URL: http://www.national.com/packaging/folders/m16a.html
footprint M16A_N (SOIC, 16-Leads, Body 9.9x3.9mm, Pitch 1.27mm, IPC Medium Density)
footprint M16A_L (SOIC, 16-Leads, Body 9.9x3.9mm, Pitch 1.27mm, IPC High Density)
footprint M16A_M (SOIC, 16-Leads, Body 9.9x3.9mm, Pitch 1.27mm, IPC Low Density)
pins: 1 SEL1 (in), 2 SEL0 (in), 3 IN0+ (in), 4 IN0- (in), 5 VDD (power), 6 IN1+ (in), 7 IN1- (in), 8 NC , 9 NC , 10 OUT1- (out), 11 OUT1+ (out), 12 GND  (power), 13 OUT0- (out), 14 OUT0+ (out), 15 EN1 (in), 16 EN0 (in)

## DS10CP154ATSQ/NOPB
designator U?
1.5 Gbps 4x4 LVDS Crosspoint Switch, 40-pin LLP, Pb-Free; PartNumber: DS10CP154ATSQ/NOPB; Manufacturer: National Semiconductor; PackageTopMarking: NS*UZXYTTE#*1CP154AS; PowerWise: Y; CompType: Interface IC; DatasheetVersion: Aug-2008; PackageVersion: revB, Mar-2004; PackageReference: SQA40A; PackageDescription: LLP, Plastic, Quad, 6 x 6 x 0.8mm Body, 40 Lead, 0.5mm Pitch, No Pullback; RoHS: Y; PinCount: 40; High-Reliability: Y; ComponentLink1Description: Manufacturer URL; ComponentLink1URL: http://www.national.com/; ComponentLink2Description: DS10CP154A Datasheet; ComponentLink2URL: http://www.national.com/ds/DS/DS10CP154A.pdf; ComponentLink3Description: DS10CP154A Web Page; ComponentLink3URL: http://www.national.com/pf/DS/DS10CP154A.html; ComponentLink4Description: SQA40A Package Page; ComponentLink4URL: http://www.national.com/packaging/folders/sqa40a.html
footprint SQA40A (QFN, 40-Leads, Body 6x6mm, Pitch 0.5mm, Thermal Pad 4.7x4.7mm, NSC Recommended)
pins: 1 IN0+ (in), 2 IN0- (in), 3 VDD (power), 4 IN1+ (in), 5 IN1- (in), 6 IN2+ (in), 7 IN2- (in), 8 VDD (power), 9 IN3+ (in), 10 IN3- (in), 11 NC, 12 NC, 13 S30 (in), 14 S31 (in), 15 VDD (power), 16 GND (power), 17 EN_SMB (in), 18 NC, 19 NC, 20 NC, 21 OUT3- (out), 22 OUT3+ (out), 23 OUT2- (out), 24 OUT2+ (out), 25 VDD (power), 26 OUT1- (out), 27 OUT1+ (out), 28 OUT0- (out), 29 OUT0+ (out), 30 VDD (power), 31 NC, 32 S21/ADDR3 (io), 33 S20/ADDR2 (io), 34 S11/ADDR1 (io), 35 S10/ADDR0 (io), 36 S01/SDA (io), 37 S00/SCL (io), 38 ~{PWDN} (in), 39 NC, 40 NC, 41 GND (power)

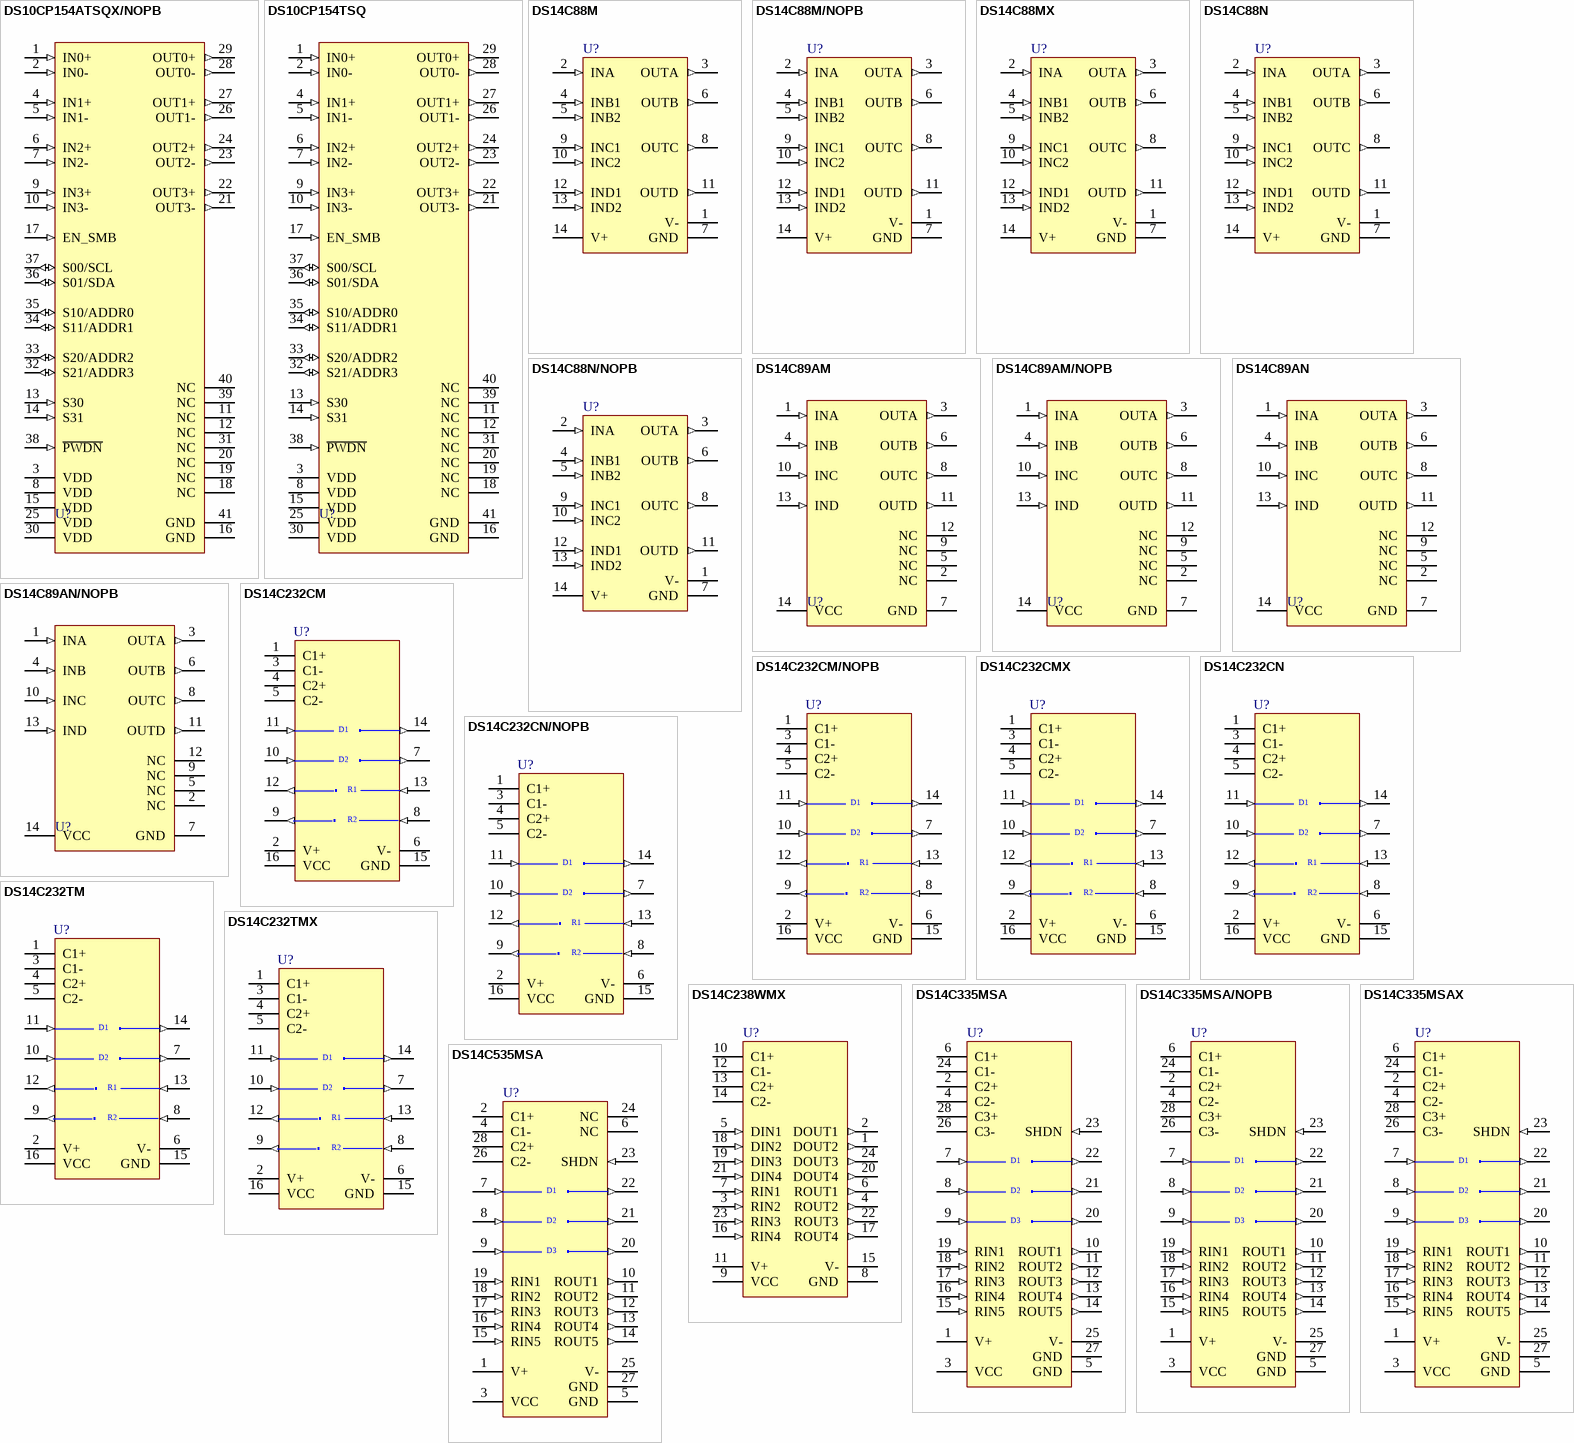
[diagram p15: symbols DS10CP154ATSQX/NOPB to DS14C535MSA]

## DS10CP154ATSQX/NOPB
designator U?
1.5 Gbps 4x4 LVDS Crosspoint Switch, 40-pin LLP, Pb-Free; PartNumber: DS10CP154ATSQX/NOPB; Manufacturer: National Semiconductor; PackageTopMarking: NS*UZXYTTE#*1CP154AS; PowerWise: Y; CompType: Interface IC; DatasheetVersion: Aug-2008; PackageVersion: revB, Mar-2004; PackageReference: SQA40A; PackageDescription: LLP, Plastic, Quad, 6 x 6 x 0.8mm Body, 40 Lead, 0.5mm Pitch, No Pullback; RoHS: Y; PinCount: 40; High-Reliability: Y; ComponentLink1Description: Manufacturer URL; ComponentLink1URL: http://www.national.com/; ComponentLink2Description: DS10CP154A Datasheet; ComponentLink2URL: http://www.national.com/ds/DS/DS10CP154A.pdf; ComponentLink3Description: DS10CP154A Web Page; ComponentLink3URL: http://www.national.com/pf/DS/DS10CP154A.html; ComponentLink4Description: SQA40A Package Page; ComponentLink4URL: http://www.national.com/packaging/folders/sqa40a.html
footprint SQA40A (QFN, 40-Leads, Body 6x6mm, Pitch 0.5mm, Thermal Pad 4.7x4.7mm, NSC Recommended)
pins: 1 IN0+ (in), 2 IN0- (in), 3 VDD (power), 4 IN1+ (in), 5 IN1- (in), 6 IN2+ (in), 7 IN2- (in), 8 VDD (power), 9 IN3+ (in), 10 IN3- (in), 11 NC, 12 NC, 13 S30 (in), 14 S31 (in), 15 VDD (power), 16 GND (power), 17 EN_SMB (in), 18 NC, 19 NC, 20 NC, 21 OUT3- (out), 22 OUT3+ (out), 23 OUT2- (out), 24 OUT2+ (out), 25 VDD (power), 26 OUT1- (out), 27 OUT1+ (out), 28 OUT0- (out), 29 OUT0+ (out), 30 VDD (power), 31 NC, 32 S21/ADDR3 (io), 33 S20/ADDR2 (io), 34 S11/ADDR1 (io), 35 S10/ADDR0 (io), 36 S01/SDA (io), 37 S00/SCL (io), 38 ~{PWDN} (in), 39 NC, 40 NC, 41 GND (power)

## DS10CP154TSQ
designator U?
1.5 Gbps 4x4 LVDS Crosspoint Switch, 40-pin LLP; PartNumber: DS10CP154TSQ; Manufacturer: National Semiconductor; PackageTopMarking: NS*UZXYTT*1CP154SQ; PowerWise: Y; CompType: Interface IC; DatasheetVersion: Nov-2007; PackageVersion: revB, Mar-2004; PackageReference: SQA40A; PackageDescription: LLP, Plastic, Quad, 6 x 6 x 0.8mm Body, 40 Lead, 0.5mm Pitch, No Pullback; RoHS: Y; PinCount: 40; High-Reliability: Y; ComponentLink1Description: Manufacturer URL; ComponentLink1URL: http://www.national.com/; ComponentLink2Description: DS10CP154 Web Page; ComponentLink2URL: http://www.national.com/pf/DS/DS10CP154.html; ComponentLink3Description: SQA40A Package Page; ComponentLink3URL: http://www.national.com/packaging/folders/sqa40a.html
footprint SQA40A (QFN, 40-Leads, Body 6x6mm, Pitch 0.5mm, Thermal Pad 4.7x4.7mm, NSC Recommended)
pins: 1 IN0+ (in), 2 IN0- (in), 3 VDD (power), 4 IN1+ (in), 5 IN1- (in), 6 IN2+ (in), 7 IN2- (in), 8 VDD (power), 9 IN3+ (in), 10 IN3- (in), 11 NC, 12 NC, 13 S30 (in), 14 S31 (in), 15 VDD (power), 16 GND (power), 17 EN_SMB (in), 18 NC, 19 NC, 20 NC, 21 OUT3- (out), 22 OUT3+ (out), 23 OUT2- (out), 24 OUT2+ (out), 25 VDD (power), 26 OUT1- (out), 27 OUT1+ (out), 28 OUT0- (out), 29 OUT0+ (out), 30 VDD (power), 31 NC, 32 S21/ADDR3 (io), 33 S20/ADDR2 (io), 34 S11/ADDR1 (io), 35 S10/ADDR0 (io), 36 S01/SDA (io), 37 S00/SCL (io), 38 ~{PWDN} (in), 39 NC, 40 NC, 41 GND (power)

## DS14C88M
designator U?
Quad CMOS Line Driver, 14-pin Narrow SOIC; PartNumber: DS14C88M; Manufacturer: National Semiconductor; PackageTopMarking: NSUZXYTTE#*DS14C88M; PowerWise: N; CompType: Interface IC; High-Reliability: Y; DatasheetVersion: May-1998; PackageVersion: revJ, Jan-1996; PackageReference: M14A; PackageDescription: Molded Package S.O., .150in Wide, 14 Lead; RoHS: N; PinCount: 14; Code_JEDEC: MS-012AB; Code_IPC: SOIC127P600-14; ComponentLink1Description: Manufacturer URL; ComponentLink1URL: http://www.national.com/; ComponentLink2Description: DS14C88 Datasheet; ComponentLink2URL: http://www.national.com/ds/DS/DS14C88.pdf; ComponentLink3Description: DS14C88 Web Page; ComponentLink3URL: http://www.national.com/pf/DS/DS14C88.html; ComponentLink4Description: M14A Package Page; ComponentLink4URL: http://www.national.com/packaging/folders/m14a.html
footprint M14A_N (SOIC, 14-Leads, Body 8.6x3.9mm, Pitch 1.27mm, IPC Medium Density)
footprint M14A_L (SOIC, 14-Leads, Body 8.6x3.9mm, Pitch 1.27mm, IPC High Density)
footprint M14A_M (SOIC, 14-Leads, Body 8.6x3.9mm, Pitch 1.27mm, IPC Low Density)
pins: 1 V- (power), 2 INA (in), 3 OUTA (out), 4 INB1 (in), 5 INB2 (in), 6 OUTB (out), 7 GND (power), 8 OUTC (out), 9 INC1 (in), 10 INC2 (in), 11 OUTD (out), 12 IND1 (in), 13 IND2 (in), 14 V+ (power)

## DS14C88M/NOPB
designator U?
Quad CMOS Line Driver, 14-pin Narrow SOIC, Pb-Free; PartNumber: DS14C88M/NOPB; Manufacturer: National Semiconductor; PackageTopMarking: NSUZXYTTE#*DS14C88M; PowerWise: N; CompType: Interface IC; High-Reliability: Y; DatasheetVersion: May-1998; PackageVersion: revJ, Jan-1996; PackageReference: M14A; PackageDescription: Molded Package S.O., .150in Wide, 14 Lead; RoHS: Y; PinCount: 14; Code_JEDEC: MS-012AB; Code_IPC: SOIC127P600-14; ComponentLink1Description: Manufacturer URL; ComponentLink1URL: http://www.national.com/; ComponentLink2Description: DS14C88 Datasheet; ComponentLink2URL: http://www.national.com/ds/DS/DS14C88.pdf; ComponentLink3Description: DS14C88 Web Page; ComponentLink3URL: http://www.national.com/pf/DS/DS14C88.html; ComponentLink4Description: M14A Package Page; ComponentLink4URL: http://www.national.com/packaging/folders/m14a.html
footprint M14A_N (SOIC, 14-Leads, Body 8.6x3.9mm, Pitch 1.27mm, IPC Medium Density)
footprint M14A_L (SOIC, 14-Leads, Body 8.6x3.9mm, Pitch 1.27mm, IPC High Density)
footprint M14A_M (SOIC, 14-Leads, Body 8.6x3.9mm, Pitch 1.27mm, IPC Low Density)
pins: 1 V- (power), 2 INA (in), 3 OUTA (out), 4 INB1 (in), 5 INB2 (in), 6 OUTB (out), 7 GND (power), 8 OUTC (out), 9 INC1 (in), 10 INC2 (in), 11 OUTD (out), 12 IND1 (in), 13 IND2 (in), 14 V+ (power)

## DS14C88MX
designator U?
Quad CMOS Line Driver, 14-pin Narrow SOIC; PartNumber: DS14C88MX; Manufacturer: National Semiconductor; PackageTopMarking: NSUZXYTTE#*DS14C88M; PowerWise: N; CompType: Interface IC; High-Reliability: Y; DatasheetVersion: May-1998; PackageVersion: revJ, Jan-1996; PackageReference: M14A; PackageDescription: Molded Package S.O., .150in Wide, 14 Lead; RoHS: N; PinCount: 14; Code_JEDEC: MS-012AB; Code_IPC: SOIC127P600-14; ComponentLink1Description: Manufacturer URL; ComponentLink1URL: http://www.national.com/; ComponentLink2Description: DS14C88 Datasheet; ComponentLink2URL: http://www.national.com/ds/DS/DS14C88.pdf; ComponentLink3Description: DS14C88 Web Page; ComponentLink3URL: http://www.national.com/pf/DS/DS14C88.html; ComponentLink4Description: M14A Package Page; ComponentLink4URL: http://www.national.com/packaging/folders/m14a.html
footprint M14A_N (SOIC, 14-Leads, Body 8.6x3.9mm, Pitch 1.27mm, IPC Medium Density)
footprint M14A_L (SOIC, 14-Leads, Body 8.6x3.9mm, Pitch 1.27mm, IPC High Density)
footprint M14A_M (SOIC, 14-Leads, Body 8.6x3.9mm, Pitch 1.27mm, IPC Low Density)
pins: 1 V- (power), 2 INA (in), 3 OUTA (out), 4 INB1 (in), 5 INB2 (in), 6 OUTB (out), 7 GND (power), 8 OUTC (out), 9 INC1 (in), 10 INC2 (in), 11 OUTD (out), 12 IND1 (in), 13 IND2 (in), 14 V+ (power)

## DS14C88N
designator U?
Quad CMOS Line Driver, 14-pin MDIP; PartNumber: DS14C88N; Manufacturer: National Semiconductor; PackageTopMarking: NSUZXYYTTE#*DS14C88N; PowerWise: N; CompType: Interface IC; High-Reliability: Y; DatasheetVersion: May-1998; PackageVersion: revG, May-2006; PackageReference: N14A; PackageDescription: MDIP, .750 x .250 x.130in, 14 Lead, .100in Pitch; RoHS: N; PinCount: 14; Code_JEDEC: MS-001-AA; ComponentLink1Description: Manufacturer URL; ComponentLink1URL: http://www.national.com/; ComponentLink2Description: DS14C88 Datasheet; ComponentLink2URL: http://www.national.com/ds/DS/DS14C88.pdf; ComponentLink3Description: DS14C88 Web Page; ComponentLink3URL: http://www.national.com/pf/DS/DS14C88.html; ComponentLink4Description: N14A Package Page; ComponentLink4URL: http://www.national.com/packaging/folders/n14a.html
footprint N14A (DIP, 14-Leads, Row Spacing 7.62mm, Pitch 2.54mm, Body 19.56x6.35mm)
pins: 1 V- (power), 2 INA (in), 3 OUTA (out), 4 INB1 (in), 5 INB2 (in), 6 OUTB (out), 7 GND (power), 8 OUTC (out), 9 INC1 (in), 10 INC2 (in), 11 OUTD (out), 12 IND1 (in), 13 IND2 (in), 14 V+ (power)

## DS14C88N/NOPB
designator U?
Quad CMOS Line Driver, 14-pin MDIP, Pb-Free; PartNumber: DS14C88N/NOPB; Manufacturer: National Semiconductor; PackageTopMarking: NSUZXYYTTE#*DS14C88N; PowerWise: N; CompType: Interface IC; High-Reliability: Y; DatasheetVersion: May-1998; PackageVersion: revG, May-2006; PackageReference: N14A; PackageDescription: MDIP, .750 x .250 x.130in, 14 Lead, .100in Pitch; RoHS: Y; PinCount: 14; Code_JEDEC: MS-001-AA; ComponentLink1Description: Manufacturer URL; ComponentLink1URL: http://www.national.com/; ComponentLink2Description: DS14C88 Datasheet; ComponentLink2URL: http://www.national.com/ds/DS/DS14C88.pdf; ComponentLink3Description: DS14C88 Web Page; ComponentLink3URL: http://www.national.com/pf/DS/DS14C88.html; ComponentLink4Description: N14A Package Page; ComponentLink4URL: http://www.national.com/packaging/folders/n14a.html
footprint N14A (DIP, 14-Leads, Row Spacing 7.62mm, Pitch 2.54mm, Body 19.56x6.35mm)
pins: 1 V- (power), 2 INA (in), 3 OUTA (out), 4 INB1 (in), 5 INB2 (in), 6 OUTB (out), 7 GND (power), 8 OUTC (out), 9 INC1 (in), 10 INC2 (in), 11 OUTD (out), 12 IND1 (in), 13 IND2 (in), 14 V+ (power)

## DS14C89AM
designator U?
Quad CMOS Receiver, 14-pin Narrow SOIC; PartNumber: DS14C89AM; Manufacturer: National Semiconductor; PackageTopMarking: NSUZXYTTE#*DS14C89AM; PowerWise: N; CompType: Interface IC; High-Reliability: Y; DatasheetVersion: May-1998; PackageVersion: revJ, Jan-1996; PackageReference: M14A; PackageDescription: Molded Package S.O., .150in Wide, 14 Lead; RoHS: N; PinCount: 14; Code_JEDEC: MS-012AB; Code_IPC: SOIC127P600-14; ComponentLink1Description: Manufacturer URL; ComponentLink1URL: http://www.national.com/; ComponentLink2Description: DS14C89A Datasheet; ComponentLink2URL: http://www.national.com/ds/DS/DS14C89A.pdf; ComponentLink3Description: DS14C89A Web Page; ComponentLink3URL: http://www.national.com/pf/DS/DS14C89A.html; ComponentLink4Description: M14A Package Page; ComponentLink4URL: http://www.national.com/packaging/folders/m14a.html
footprint M14A_N (SOIC, 14-Leads, Body 8.6x3.9mm, Pitch 1.27mm, IPC Medium Density)
footprint M14A_L (SOIC, 14-Leads, Body 8.6x3.9mm, Pitch 1.27mm, IPC High Density)
footprint M14A_M (SOIC, 14-Leads, Body 8.6x3.9mm, Pitch 1.27mm, IPC Low Density)
pins: 1 INA (in), 2 NC, 3 OUTA (out), 4 INB (in), 5 NC, 6 OUTB (out), 7 GND (power), 8 OUTC (out), 9 NC, 10 INC (in), 11 OUTD (out), 12 NC, 13 IND (in), 14 VCC (power)

## DS14C89AM/NOPB
designator U?
Quad CMOS Receiver, 14-pin Narrow SOIC, Pb-Free; PartNumber: DS14C89AM/NOPB; Manufacturer: National Semiconductor; PackageTopMarking: NSUZXYTTE#*DS14C89AM; PowerWise: N; CompType: Interface IC; High-Reliability: Y; DatasheetVersion: May-1998; PackageVersion: revJ, Jan-1996; PackageReference: M14A; PackageDescription: Molded Package S.O., .150in Wide, 14 Lead; RoHS: Y; PinCount: 14; Code_JEDEC: MS-012AB; Code_IPC: SOIC127P600-14; ComponentLink1Description: Manufacturer URL; ComponentLink1URL: http://www.national.com/; ComponentLink2Description: DS14C89A Datasheet; ComponentLink2URL: http://www.national.com/ds/DS/DS14C89A.pdf; ComponentLink3Description: DS14C89A Web Page; ComponentLink3URL: http://www.national.com/pf/DS/DS14C89A.html; ComponentLink4Description: M14A Package Page; ComponentLink4URL: http://www.national.com/packaging/folders/m14a.html
footprint M14A_N (SOIC, 14-Leads, Body 8.6x3.9mm, Pitch 1.27mm, IPC Medium Density)
footprint M14A_L (SOIC, 14-Leads, Body 8.6x3.9mm, Pitch 1.27mm, IPC High Density)
footprint M14A_M (SOIC, 14-Leads, Body 8.6x3.9mm, Pitch 1.27mm, IPC Low Density)
pins: 1 INA (in), 2 NC, 3 OUTA (out), 4 INB (in), 5 NC, 6 OUTB (out), 7 GND (power), 8 OUTC (out), 9 NC, 10 INC (in), 11 OUTD (out), 12 NC, 13 IND (in), 14 VCC (power)

## DS14C89AN
designator U?
Quad CMOS Receiver, 14-pin MDIP; PartNumber: DS14C89AN; Manufacturer: National Semiconductor; PackageTopMarking: NSUZXYYTTE#*DS14C89AN; PowerWise: N; CompType: Interface IC; High-Reliability: Y; DatasheetVersion: May-1998; PackageVersion: revG, May-2006; PackageReference: N14A; PackageDescription: MDIP, .750 x .250 x.130in, 14 Lead, .100in Pitch; RoHS: N; PinCount: 14; Code_JEDEC: MS-001-AA; ComponentLink1Description: Manufacturer URL; ComponentLink1URL: http://www.national.com/; ComponentLink2Description: DS14C89A Datasheet; ComponentLink2URL: http://www.national.com/ds/DS/DS14C89A.pdf; ComponentLink3Description: DS14C89A Web Page; ComponentLink3URL: http://www.national.com/pf/DS/DS14C89A.html; ComponentLink4Description: N14A Package Page; ComponentLink4URL: http://www.national.com/packaging/folders/n14a.html
footprint N14A (DIP, 14-Leads, Row Spacing 7.62mm, Pitch 2.54mm, Body 19.56x6.35mm)
pins: 1 INA (in), 2 NC, 3 OUTA (out), 4 INB (in), 5 NC, 6 OUTB (out), 7 GND (power), 8 OUTC (out), 9 NC, 10 INC (in), 11 OUTD (out), 12 NC, 13 IND (in), 14 VCC (power)

## DS14C89AN/NOPB
designator U?
Quad CMOS Receiver, 14-pin MDIP, Pb-Free; PartNumber: DS14C89AN/NOPB; Manufacturer: National Semiconductor; PackageTopMarking: NSUZXYYTTE#*DS14C89AN; PowerWise: N; CompType: Interface IC; High-Reliability: Y; DatasheetVersion: May-1998; PackageVersion: revG, May-2006; PackageReference: N14A; PackageDescription: MDIP, .750 x .250 x.130in, 14 Lead, .100in Pitch; RoHS: Y; PinCount: 14; Code_JEDEC: MS-001-AA; ComponentLink1Description: Manufacturer URL; ComponentLink1URL: http://www.national.com/; ComponentLink2Description: DS14C89A Datasheet; ComponentLink2URL: http://www.national.com/ds/DS/DS14C89A.pdf; ComponentLink3Description: DS14C89A Web Page; ComponentLink3URL: http://www.national.com/pf/DS/DS14C89A.html; ComponentLink4Description: N14A Package Page; ComponentLink4URL: http://www.national.com/packaging/folders/n14a.html
footprint N14A (DIP, 14-Leads, Row Spacing 7.62mm, Pitch 2.54mm, Body 19.56x6.35mm)
pins: 1 INA (in), 2 NC, 3 OUTA (out), 4 INB (in), 5 NC, 6 OUTB (out), 7 GND (power), 8 OUTC (out), 9 NC, 10 INC (in), 11 OUTD (out), 12 NC, 13 IND (in), 14 VCC (power)

## DS14C232CM
designator U?
Low-Power +5V Powered TIA/EIA-232 Dual Driver/Receiver, 16-pin Narrow SOIC; PartNumber: DS14C232CM; Manufacturer: National Semiconductor; PackageTopMarking: NSUZXYTTE#*DS14C232CM; PowerWise: N; CompType: Interface IC; High-Reliability: Y; DatasheetVersion: Oct-1999; PackageVersion: revJ, Aug-1995; PackageReference: M16A; PackageDescription: Molded Package, SO, .150in Wide, 16 Lead; RoHS: N; PinCount: 16; Code_JEDEC: MS-012-AC; Code_IPC: SOIC127P600-16; ComponentLink1Description: Manufacturer URL; ComponentLink1URL: http://www.national.com/; ComponentLink2Description: DS14C232 Datasheet; ComponentLink2URL: http://www.national.com/ds/DS/DS14C232.pdf; ComponentLink3Description: DS14C232 Web Page; ComponentLink3URL: http://www.national.com/pf/DS/DS14C232.html; ComponentLink4Description: M16A Package Page; ComponentLink4URL: http://www.national.com/packaging/folders/m16a.html
footprint M16A_N (SOIC, 16-Leads, Body 9.9x3.9mm, Pitch 1.27mm, IPC Medium Density)
footprint M16A_L (SOIC, 16-Leads, Body 9.9x3.9mm, Pitch 1.27mm, IPC High Density)
footprint M16A_M (SOIC, 16-Leads, Body 9.9x3.9mm, Pitch 1.27mm, IPC Low Density)
pins: 1 C1+, 2 V+ (power), 3 C1-, 4 C2+, 5 C2-, 6 V- (power), 7 DOUT (out), 8 RIN (in), 9 ROUT (out), 10 DIN (in), 11 DIN (in), 12 ROUT (out), 13 RIN (in), 14 DOUT (out), 15 GND (power), 16 VCC (power)
text: D1; D2; R1; R2